# Altium schematic symbol library 691 329 300 0xx.SchLib: 6 symbols
Pins are listed as number, name and electrical type; pins without a type are passive.

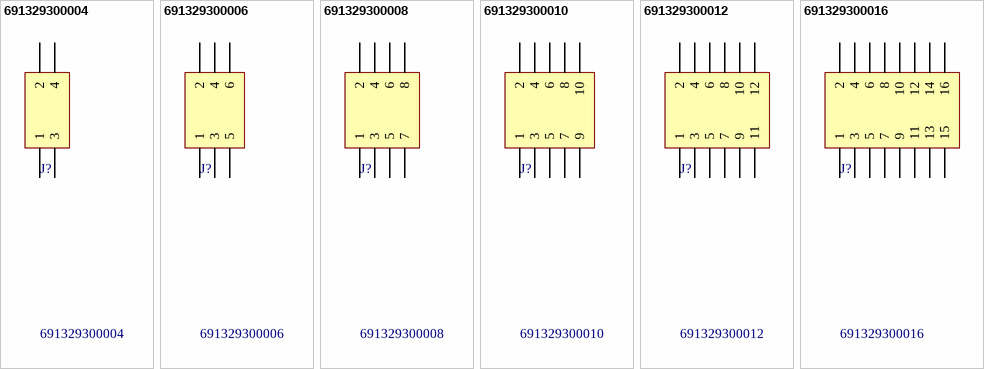
[diagram p0: symbols 691329300004 to 691329300016]

## 691329300004
designator J?
WR-TBL Terminal block - serie 3293 - 3.81 mm; Manufacturer: Würth Elektronik eiSos GmbH; ComponentLink1 Description: Manufacturer; ComponentLink2 Description: Datasheet; NoPins: 4; Created Date: 13 December 2013; partNo: 691329300004; ComponentLink1URL: http://www.we-online.com; ComponentLink2URL: http://katalog.we-online.de/em/datasheet/6913293000xxB.pdf; Created by: Karrer Zheng
footprint 691329300004 (3,81mm - PCB - Dual row - Vertical - 04p)
pins: 1, 2, 3, 4

## 691329300006
designator J?
WR-TBL Terminal block - serie 3293 - 3.81 mm; Manufacturer: Würth Elektronik eiSos GmbH; ComponentLink1 Description: Manufacturer; ComponentLink2 Description: Datasheet; NoPins: 6; Created Date: 13 December 2013; partNo: 691329300006; ComponentLink1URL: http://www.we-online.com; ComponentLink2URL: http://katalog.we-online.de/em/datasheet/6913293000xxB.pdf; Created by: Karrer Zheng
footprint 691329300006 (3,81mm - PCB - Dual row - Vertical - 06p)
pins: 1, 2, 3, 4, 5, 6

## 691329300008
designator J?
WR-TBL Terminal block - serie 3293 - 3.81 mm; Manufacturer: Würth Elektronik eiSos GmbH; ComponentLink1 Description: Manufacturer; ComponentLink2 Description: Datasheet; NoPins: 8; Created Date: 13 December 2013; partNo: 691329300008; ComponentLink1URL: http://www.we-online.com; ComponentLink2URL: http://katalog.we-online.de/em/datasheet/6913293000xxB.pdf; Created by: Karrer Zheng
footprint 691329300008 (3,81mm - PCB - Dual row - Vertical - 08p)
pins: 1, 2, 3, 4, 5, 6, 7, 8

## 691329300010
designator J?
WR-TBL Terminal block - serie 3293 - 3.81 mm; Manufacturer: Würth Elektronik eiSos GmbH; ComponentLink1 Description: Manufacturer; ComponentLink2 Description: Datasheet; NoPins: 10; Created Date: 13 December 2013; partNo: 691329300010; ComponentLink1URL: http://www.we-online.com; ComponentLink2URL: http://katalog.we-online.de/em/datasheet/6913293000xxB.pdf; Created by: Karrer Zheng
footprint 691329300010 (3,81mm - PCB - Dual row - Vertical - 10p)
pins: 1, 2, 3, 4, 5, 6, 7, 8, 9, 10

## 691329300012
designator J?
WR-TBL Terminal block - serie 3293 - 3.81 mm; Manufacturer: Würth Elektronik eiSos GmbH; ComponentLink1 Description: Manufacturer; ComponentLink2 Description: Datasheet; NoPins: 12; Created Date: 13 December 2013; partNo: 691329300012; ComponentLink1URL: http://www.we-online.com; ComponentLink2URL: http://katalog.we-online.de/em/datasheet/6913293000xxB.pdf; Created by: Karrer Zheng
footprint 691329300012 (3,81mm - PCB - Dual row - Vertical - 12p)
pins: 1, 2, 3, 4, 5, 6, 7, 8, 9, 10, 11, 12

## 691329300016
designator J?
WR-TBL Terminal block - serie 3293 - 3.81 mm; Manufacturer: Würth Elektronik eiSos GmbH; ComponentLink1 Description: Manufacturer; ComponentLink2 Description: Datasheet; NoPins: 16; Created Date: 13 December 2013; partNo: 691329300016; ComponentLink1URL: http://www.we-online.com; ComponentLink2URL: http://katalog.we-online.de/em/datasheet/6913293000xxB.pdf; Created by: Karrer Zheng
footprint 691329300016 (3,81mm - PCB - Dual row - Vertical - 16p)
pins: 1, 2, 3, 4, 5, 6, 7, 8, 9, 10, 11, 12, 13, 14, 15, 16